# EAGLE library part IDE_CON (library xess)
IDE disk connector.
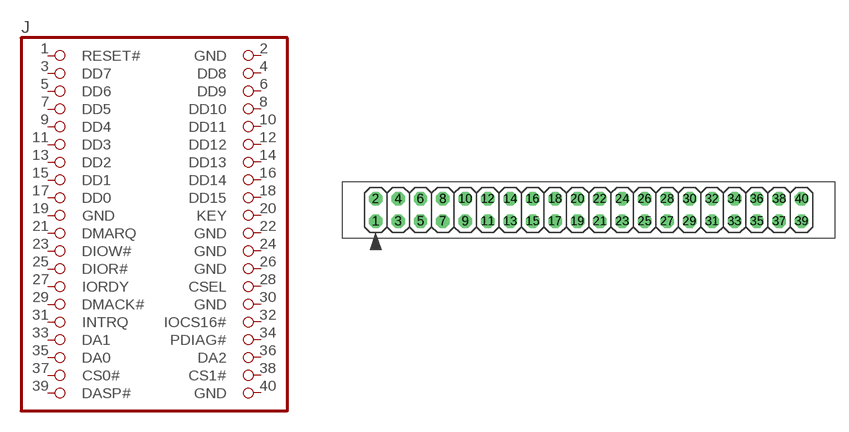
[diagram p34: symbol with the pads of IDE_CON; footprint IDE_CON]

Designator prefix J

## IDE_CON  [IDE_CON]
1  RESET#  in
2  GND  pwr
3  DD7
4  DD8
5  DD6
6  DD9
7  DD5
8  DD10
9  DD4
10  DD11
11  DD3
12  DD12
13  DD2
14  DD13
15  DD1
16  DD14
17  DD0
18  DD15
19  GND  pwr
20  KEY  pas
21  DMARQ  out
22  GND  pwr
23  DIOW#  in
24  GND  pwr
25  DIOR#  in
26  GND  pwr
27  IORDY  out
28  CSEL  pas
29  DMACK#  in
30  GND  pwr
31  INTRQ  out
32  IOCS16#  out
33  DA1  in
34  PDIAG#  out
35  DA0  in
36  DA2  in
37  CS0#  in
38  CS1#  in
39  DASP#  out
40  GND  pwr

## Footprint IDE_CON (pad centres in mm)
drill 1.016 octagon: 1 -24.13,-1.27; 2 -24.13,1.27; 3 -21.59,-1.27; 4 -21.59,1.27; 5 -19.05,-1.27; 6 -19.05,1.27; 7 -16.51,-1.27; 8 -16.51,1.27; 9 -13.97,-1.27; 10 -13.97,1.27; 11 -11.43,-1.27; 12 -11.43,1.27; 13 -8.89,-1.27; 14 -8.89,1.27; 15 -6.35,-1.27; 16 -6.35,1.27; 17 -3.81,-1.27; 18 -3.81,1.27; 19 -1.27,-1.27; 20 -1.27,1.27; 21 1.27,-1.27; 22 1.27,1.27; 23 3.81,-1.27; 24 3.81,1.27; 25 6.35,-1.27; 26 6.35,1.27; 27 8.89,-1.27; 28 8.89,1.27; 29 11.43,-1.27; 30 11.43,1.27; 31 13.97,-1.27; 32 13.97,1.27; 33 16.51,-1.27; 34 16.51,1.27; 35 19.05,-1.27; 36 19.05,1.27; 37 21.59,-1.27; 38 21.59,1.27; 39 24.13,-1.27; 40 24.13,1.27